# Altium footprint library POWER IC.PcbLib: 4 footprints
Each footprint in its own frame and in the unit in brackets; x right, y up, seen from the top. Pads: shape width x height; smd on the part's side, far side on the other; paste and mask are expansions set on the pad; w line width, h text height; cw(c..) or ccw(c..) is an arc to the next point about the centre after c.
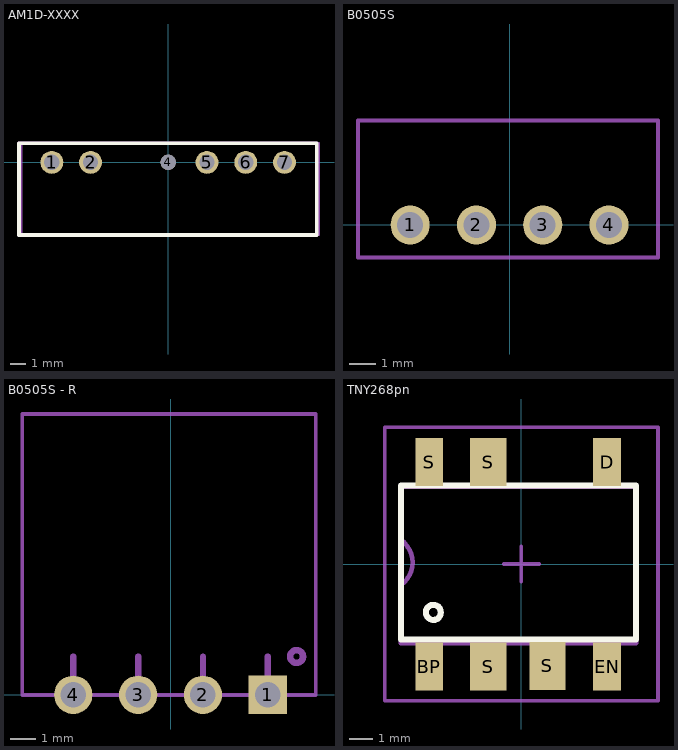
[diagram p0: the footprints below, top view; thin cyan lines are the x and y axes]

## AM1D-XXXX [mm]
pads (6):
  round 1.5 hole 1: 1(-7.62,0) 2(-5.08,0) 5(2.54,0) 6(5.08,0) 7(7.62,0)
  round 1 hole 1 unplated: 4(0,0)
Top Overlay:
  lines w0.254: -9.77,-4.75 9.73,-4.75 9.73,1.25 -9.77,1.25 -9.77,-4.75
Top Assembly:
  lines w0.15: -9.62,-4.75 -9.62,1.26 9.88,1.26 9.88,-4.75 -9.62,-4.75
  lines w0.254: -9.77,-4.75 9.73,-4.75 9.73,1.25 -9.77,1.25 -9.77,-4.75
3D body "User Library-AM1D-0505S.step": height 10, standoff -3.05, extent -9.62,-4.75 9.88,1.26

## B0505S [mm]
pads (4):
  round 1.5 hole 1: 1(-3.81,0) 2(-1.27,0) 3(1.27,0) 4(3.81,0)
Top Assembly:
  lines w0.15: -5.81,-1.25 5.69,-1.25 5.69,4 -5.81,4 -5.81,-1.25
3D body: height 10.2, standoff 0.2, extent -5.81,-1.25 5.69,4

## B0505S - R [mm]
pads (4):
  rect 1.5x1.5 hole 1: 1(3.81,0)
  round 1.5 hole 1: 2(1.27,0) 3(-1.27,0) 4(-3.81,0)
Top Assembly:
  circle w0.254: c4.94,1.5 r0.25
  lines w0.15: -5.81,0 5.69,0 5.69,11 -5.81,11 -5.81,0
  lines w0.25: -3.81,0 -3.81,1.5 ; -1.27,0 -1.27,1.5 ; 1.27,0 1.27,1.5 ; 3.81,0 3.81,1.5
3D body: height 7.62, standoff 2.37, extent -5.81,1 5.69,11

## TNY268pn [mil]
pads (7):
  rect 46x80 smd: BP(-153,-170) D(142,169) EN(142,-170) S(-153,169)
  rect 60x80 smd: S(-55,-170) S(-55,169) S(43,-169)
Top Overlay:
  circle w10: c-146.06,-80.24 r12.45
  lines w10: -200,-125 190,-125 190,130 -200,130 -200,-125
Top Assembly:
  lines w3.94: -173,-132.42 -173,-142.42 -173,-191 -133,-191 -133,-132.42 ; -173,130.42 -173,189 -133,189 -133,140.42 -133,130.42 ; -171,129.42 -161,129.42 ; -145,-131.42 -135,-131.42 ; -75,-133.42 -75,-143.42 -75,-192 -35,-192 -35,-133.42 ; -75,130.42 -75,189 -35,189 -35,140.42 -35,130.42 ; -73,129.42 -63,129.42 ; -47,-132.42 -37,-132.42 ; 23,-133.42 23,-143.42 23,-192 63,-192 63,-133.42 ; 51,-132.42 61,-132.42 ; 123,-133.42 123,-143.42 123,-192 163,-192 163,-133.42 ; 123,129.42 123,188 163,188 163,139.42 163,129.42 ; 125,128.42 135,128.42 ; 151,-132.42 161,-132.42
  lines w7.87: -200,-34.8 ccw(c-225.59,2.6) -200,40 ; -200,-131.42 190,-131.42 190,128.43 -200,128.43 -200,-131.42
Top Component Outline:
  lines w5.91: -29.53,0 29.53,0 ; 0,-29.53 0,29.53 ; -226.38,-226.38 -226.38,226.38 226.38,226.38 226.38,-226.38 -226.38,-226.38
3D body "User Library-SMD-8B.step": height 157.48, standoff 0, extent -200,-192.91 187.8,192.92